# EAGLE library part 68801011622 (library WR-WTB)
WR-WTB 2.50 mm “J” Type Vertical Male Shrouded Header Material Properties Insulator Material PA66 Insulator Flammability Rating UL94 V-0 Color White Contact Material Brass Contact Plating Tin Contact Type Stamped Certification UL Approval E323964 General Information Operating Temperature -25 °C up to +85 °C Compliance RoHS IR 3 A Working Voltage 250 V (AC) Withstanding Voltage 800 V (AC) Contact Resistance 20 mΩ RISO 1000 MΩ Pitch 2.5 mm Gender Male Type Vertical Packaging Properties Packaging Bag <https://www.we-online.com/components/media/o33376v209%20Multi-WR-WTB250-6880xx11622.jpg> Details see: www.we-online.com/en/components/products/WTB_2_50_J_TYPE_VERTICAL_MALE_SHROUDED_HEADER_6880XX11622 <www.we-online.com/catalog/WTB_2_50_J_TYPE_VERTICAL_MALE_SHROUDED_HEADER_6880XX11622/?utm_source=eagle_model&utm_medium=description_link&utm_campaign=eisos_eagle> Updated by Ella 2025-03-06 2025 (C) Würth Elektronik
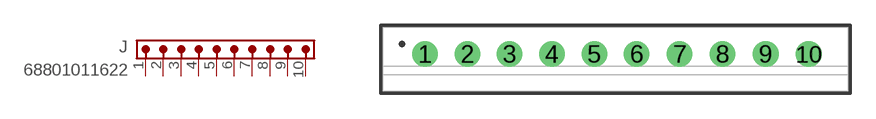
[diagram p106: symbol with the pads of 68801011622; footprint 68801011622]

Designator prefix J

## 68801011622 (CONTACT-RESISTANCE: 20mOhm; DATASHEET-URL: https://www.we-online.com/redexpert/spec/68801011622?ae; GENDER: Male; IR: 3A; L: 27.5mm; MOUNT: THT; PACKAGING: Bag; PART-NUMBER: 68801011622; PCB-CABLE-PANEL: PCB; PINS: 10; PITCH: 2.5mm; TYPE: Vertical; VALUE: 68801011622; WORKING-VOLTAGE: 250V(AC))  [68801011622]
1  1  pas
2  2  pas
3  3  pas
4  4  pas
5  5  pas
6  6  pas
7  7  pas
8  8  pas
9  9  pas
10  10  pas

## Footprint 68801011622 (pad centres in mm)
WR-WTB 2.50 mm “J” Type Vertical Male Shrouded Header,10 Pins
drill 1: 1 -11.25,0.3; 2 -8.75,0.3; 3 -6.25,0.3; 4 -3.75,0.3; 5 -1.25,0.3; 6 1.25,0.3; 7 3.79,0.3; 8 6.33,0.3; 9 8.87,0.3; 10 11.41,0.3